# Altium schematic symbol library MCU_SiFive.SchLib: 3 symbols
Pins are listed as number, name and electrical type; pins without a type are passive.

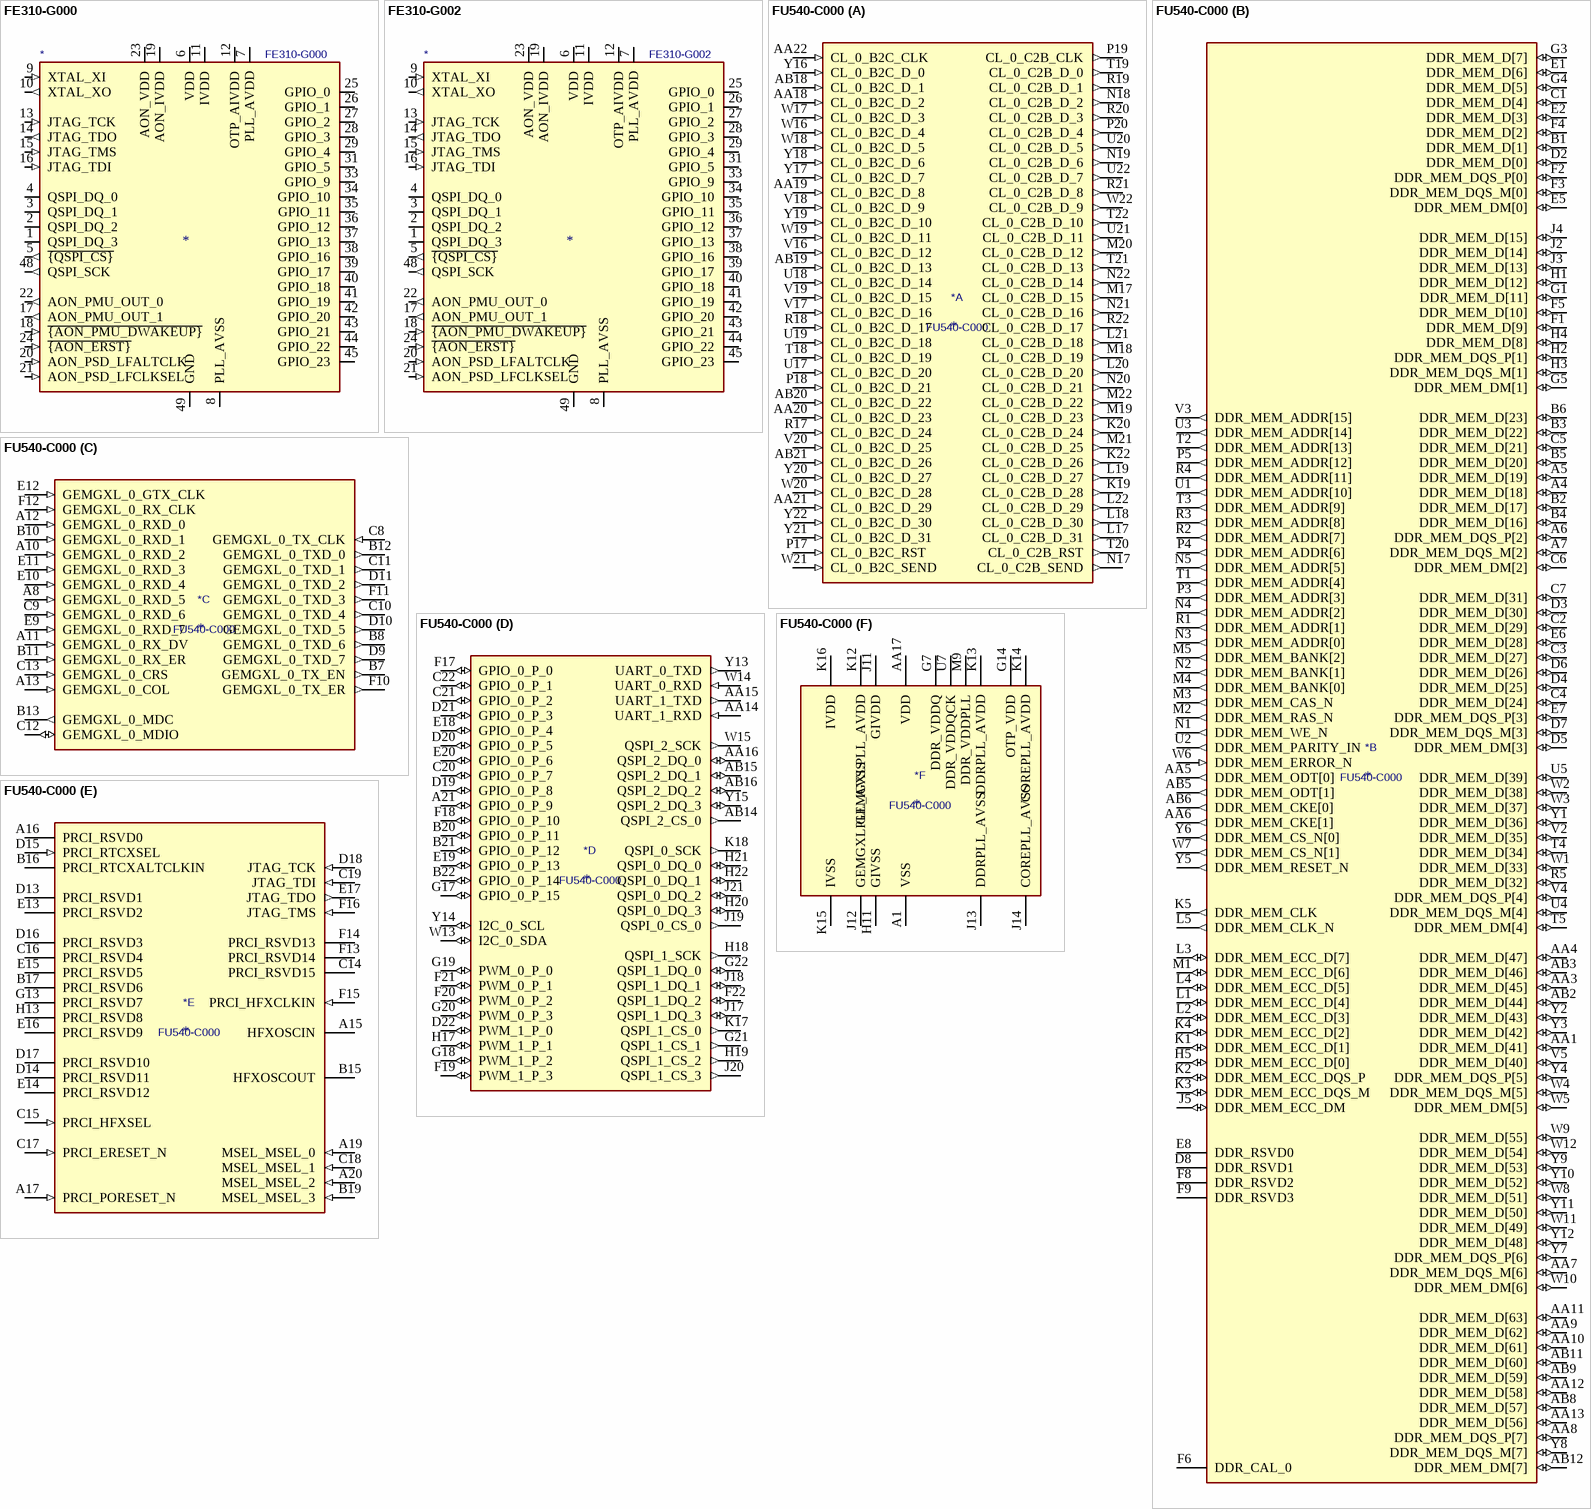
[diagram p0: symbols FE310-G000 to FU540-C000]

## FE310-G000
designator *  value FE310-G000
ki_keywords: microcontroller RISC-V SiFive; ki_description: RISC-V MCU, 8KB OTP Program Memory, 8KB ROM, 16KB Instruction Cache, 16KB SRAM, 320MHz, 1.8 and 3.6V, 24 GPIO, QFN-48; ki_fp_filters: QFN*1EP*6x6mm*P0.4mm*; Footprint: Package_DFN_QFN:QFN-48-1EP_6x6mm_P0.4mm_EP4.2x4.2mm_ThermalVias; Supplier: https://sifive.cdn.prismic.io/sifive%2Ffeb6f967-ff96-418f-9af4-a7f3b7fd1dfc_fe310-g000-ds.pdf
footprint QFN-48-1EP_6x6mm_P0.4mm_EP4.2x4.2mm_ThermalVias
pins: 1 QSPI_DQ_3 (io), 2 QSPI_DQ_2 (io), 3 QSPI_DQ_1 (io), 4 QSPI_DQ_0 (io), 5 ~{{QSPI_CS}} (out), 6 VDD (power), 7 PLL_AVDD (power), 8 PLL_AVSS (power), 9 XTAL_XI (in), 10 XTAL_XO (out), 11 IVDD (power), 12 OTP_AIVDD (power), 13 JTAG_TCK (in), 14 JTAG_TDO (out), 15 JTAG_TMS (in), 16 JTAG_TDI (in), 17 AON_PMU_OUT_1 (out), 18 ~{{AON_PMU_DWAKEUP}} (in), 19 AON_IVDD (power), 20 AON_PSD_LFALTCLK (in), 21 AON_PSD_LFCLKSEL (in), 22 AON_PMU_OUT_0 (out), 23 AON_VDD (power), 24 ~{{AON_ERST}} (in), 25 GPIO_0 (io), 26 GPIO_1 (io), 27 GPIO_2 (io), 28 GPIO_3 (io), 29 GPIO_4 (io), 30 VDD hidden, 31 GPIO_5 (io), 32 IVDD hidden, 33 GPIO_9 (io), 34 GPIO_10 (io), 35 GPIO_11 (io), 36 GPIO_12 (io), 37 GPIO_13 (io), 38 GPIO_16 (io), 39 GPIO_17 (io), 40 GPIO_18 (io), 41 GPIO_19 (io), 42 GPIO_20 (io), 43 GPIO_21 (io), 44 GPIO_22 (io), 45 GPIO_23 (io), 46 VDD hidden, 47 IVDD hidden, 48 QSPI_SCK (out), 49 GND (power)

## FE310-G002
designator *  value FE310-G002
ki_keywords: microcontroller RISC-V SiFive; ki_description: RISC-V MCU, 8KB OTP Program Memory, 8KB ROM, 16KB Instruction Cache, 16KB SRAM, 320MHz, 1.8 and 3.6V, 24 GPIO, QFN-48; ki_fp_filters: QFN*1EP*6x6mm*P0.4mm*; Footprint: Package_DFN_QFN:QFN-48-1EP_6x6mm_P0.4mm_EP4.2x4.2mm_ThermalVias; Supplier: https://sifive.cdn.prismic.io/sifive%2F3d777659-a0dd-49ed-a011-5bebba17aecf_fe310-g002-ds.pdf
footprint QFN-48-1EP_6x6mm_P0.4mm_EP4.2x4.2mm_ThermalVias
pins: 1 QSPI_DQ_3 (io), 2 QSPI_DQ_2 (io), 3 QSPI_DQ_1 (io), 4 QSPI_DQ_0 (io), 5 ~{{QSPI_CS}} (out), 6 VDD (power), 7 PLL_AVDD (power), 8 PLL_AVSS (power), 9 XTAL_XI (in), 10 XTAL_XO (out), 11 IVDD (power), 12 OTP_AIVDD (power), 13 JTAG_TCK (in), 14 JTAG_TDO (out), 15 JTAG_TMS (in), 16 JTAG_TDI (in), 17 AON_PMU_OUT_1 (out), 18 ~{{AON_PMU_DWAKEUP}} (in), 19 AON_IVDD (power), 20 AON_PSD_LFALTCLK (in), 21 AON_PSD_LFCLKSEL (in), 22 AON_PMU_OUT_0 (out), 23 AON_VDD (power), 24 ~{{AON_ERST}} (in), 25 GPIO_0 (io), 26 GPIO_1 (io), 27 GPIO_2 (io), 28 GPIO_3 (io), 29 GPIO_4 (io), 30 VDD hidden, 31 GPIO_5 (io), 32 IVDD hidden, 33 GPIO_9 (io), 34 GPIO_10 (io), 35 GPIO_11 (io), 36 GPIO_12 (io), 37 GPIO_13 (io), 38 GPIO_16 (io), 39 GPIO_17 (io), 40 GPIO_18 (io), 41 GPIO_19 (io), 42 GPIO_20 (io), 43 GPIO_21 (io), 44 GPIO_22 (io), 45 GPIO_23 (io), 46 VDD hidden, 47 IVDD hidden, 48 QSPI_SCK (out), 49 GND (power)

## FU540-C000
designator *  value FU540-C000
ki_keywords: SiFive; ki_description: 64-bit RISC‑V SoC, BGA-484; ki_fp_filters: BGA*23.0x23.0mm*P1.0mm*; Footprint: Package_BGA:BGA-484_23.0x23.0mm_Layout22x22_P1.0mm; Supplier: https://static.dev.sifive.com/FU540-C000-v1.0.pdf
footprint BGA-484_23.0x23.0mm_Layout22x22_P1.0mm
part A pins: AA18 CL_0_B2C_D_2 (in), AA19 CL_0_B2C_D_8 (in), AA20 CL_0_B2C_D_23 (in), AA21 CL_0_B2C_D_29 (in), AA22 CL_0_B2C_CLK (in), AB18 CL_0_B2C_D_1 (in), AB19 CL_0_B2C_D_13 (in), AB20 CL_0_B2C_D_22 (in), AB21 CL_0_B2C_D_26 (in), K19 CL_0_C2B_D_28 (out), K20 CL_0_C2B_D_24 (out), K22 CL_0_C2B_D_26 (out), L17 CL_0_C2B_D_31 (out), L18 CL_0_C2B_D_30 (out), L19 CL_0_C2B_D_27 (out), L20 CL_0_C2B_D_20 (out), L21 CL_0_C2B_D_18 (out), L22 CL_0_C2B_D_29 (out), M17 CL_0_C2B_D_15 (out), M18 CL_0_C2B_D_19 (out), M19 CL_0_C2B_D_23 (out), M20 CL_0_C2B_D_12 (out), M21 CL_0_C2B_D_25 (out), M22 CL_0_C2B_D_22 (out), N17 CL_0_C2B_SEND (out), N18 CL_0_C2B_D_2 (out), N19 CL_0_C2B_D_6 (out), N20 CL_0_C2B_D_21 (out), N21 CL_0_C2B_D_16 (out), N22 CL_0_C2B_D_14 (out), P17 CL_0_B2C_RST (in), P18 CL_0_B2C_D_21 (in), P19 CL_0_C2B_CLK (out), P20 CL_0_C2B_D_4 (out), R17 CL_0_B2C_D_24 (in), R18 CL_0_B2C_D_17 (in), R19 CL_0_C2B_D_1 (out), R20 CL_0_C2B_D_3 (out), R21 CL_0_C2B_D_8 (out), R22 CL_0_C2B_D_17 (out), T18 CL_0_B2C_D_19 (in), T19 CL_0_C2B_D_0 (out), T20 CL_0_C2B_RST (out), T21 CL_0_C2B_D_13 (out), T22 CL_0_C2B_D_10 (out), U17 CL_0_B2C_D_20 (in), U18 CL_0_B2C_D_14 (in), U19 CL_0_B2C_D_18 (in), U20 CL_0_C2B_D_5 (out), U21 CL_0_C2B_D_11 (out), U22 CL_0_C2B_D_7 (out), V16 CL_0_B2C_D_12 (in), V17 CL_0_B2C_D_16 (in), V18 CL_0_B2C_D_9 (in), V19 CL_0_B2C_D_15 (in), V20 CL_0_B2C_D_25 (in), W16 CL_0_B2C_D_4 (in), W17 CL_0_B2C_D_3 (in), W18 CL_0_B2C_D_5 (in), W19 CL_0_B2C_D_11 (in), W20 CL_0_B2C_D_28 (in), W21 CL_0_B2C_SEND (in), W22 CL_0_C2B_D_9 (out), Y16 CL_0_B2C_D_0 (in), Y17 CL_0_B2C_D_7 (in), Y18 CL_0_B2C_D_6 (in), Y19 CL_0_B2C_D_10 (in), Y20 CL_0_B2C_D_27 (in), Y21 CL_0_B2C_D_31 (in), Y22 CL_0_B2C_D_30 (in)
part B pins: A4 DDR_MEM_D[18] (io), A5 DDR_MEM_D[19] (io), A6 DDR_MEM_DQS_P[2] (io), A7 DDR_MEM_DQS_M[2] (io), AA1 DDR_MEM_D[41] (io), AA3 DDR_MEM_D[45] (io), AA4 DDR_MEM_D[47] (io), AA5 DDR_MEM_ODT[0] (out), AA6 DDR_MEM_CKE[1] (out), AA7 DDR_MEM_DQS_M[6] (io), AA8 DDR_MEM_DQS_P[7] (io), AA9 DDR_MEM_D[62] (io), AA10 DDR_MEM_D[61] (io), AA11 DDR_MEM_D[63] (io), AA12 DDR_MEM_D[58] (io), AA13 DDR_MEM_D[56] (io), AB2 DDR_MEM_D[44] (io), AB3 DDR_MEM_D[46] (io), AB5 DDR_MEM_ODT[1] (out), AB6 DDR_MEM_CKE[0] (out), AB8 DDR_MEM_D[57] (io), AB9 DDR_MEM_D[59] (io), AB11 DDR_MEM_D[60] (io), AB12 DDR_MEM_DM[7] (io), B1 DDR_MEM_D[1] (io), B2 DDR_MEM_D[17] (io), B3 DDR_MEM_D[22] (io), B4 DDR_MEM_D[16] (io), B5 DDR_MEM_D[20] (io), B6 DDR_MEM_D[23] (io), C1 DDR_MEM_D[4] (io), C2 DDR_MEM_D[29] (io), C3 DDR_MEM_D[27] (io), C4 DDR_MEM_D[24] (io), C5 DDR_MEM_D[21] (io), C6 DDR_MEM_DM[2] (io), C7 DDR_MEM_D[31] (io), D2 DDR_MEM_D[0] (io), D3 DDR_MEM_D[30] (io), D4 DDR_MEM_D[25] (io), D5 DDR_MEM_DM[3] (io), D6 DDR_MEM_D[26] (io), D7 DDR_MEM_DQS_M[3] (io), D8 DDR_RSVD1, E1 DDR_MEM_D[6] (io), E2 DDR_MEM_D[3] (io), E5 DDR_MEM_DM[0] (io), E6 DDR_MEM_D[28] (io), E7 DDR_MEM_DQS_P[3] (io), E8 DDR_RSVD0, F1 DDR_MEM_D[9] (io), F2 DDR_MEM_DQS_P[0] (io), F3 DDR_MEM_DQS_M[0] (io), F4 DDR_MEM_D[2] (io), F5 DDR_MEM_D[10] (io), F6 DDR_CAL_0, F8 DDR_RSVD2, F9 DDR_RSVD3, G1 DDR_MEM_D[11] (io), G3 DDR_MEM_D[7] (io), G4 DDR_MEM_D[5] (io), G5 DDR_MEM_DM[1] (io), H1 DDR_MEM_D[12] (io), H2 DDR_MEM_DQS_P[1] (io), H3 DDR_MEM_DQS_M[1] (io), H4 DDR_MEM_D[8] (io), H5 DDR_MEM_ECC_D[0] (io), J2 DDR_MEM_D[14] (io), J3 DDR_MEM_D[13] (io), J4 DDR_MEM_D[15] (io), J5 DDR_MEM_ECC_DM (io), K1 DDR_MEM_ECC_D[1] (io), K2 DDR_MEM_ECC_DQS_P (io), K3 DDR_MEM_ECC_DQS_M (io), K4 DDR_MEM_ECC_D[2] (io), K5 DDR_MEM_CLK (out), L1 DDR_MEM_ECC_D[4] (io), L2 DDR_MEM_ECC_D[3] (io), L3 DDR_MEM_ECC_D[7] (io), L4 DDR_MEM_ECC_D[5] (io), L5 DDR_MEM_CLK_N (out), M1 DDR_MEM_ECC_D[6] (io), M2 DDR_MEM_RAS_N (out), M3 DDR_MEM_CAS_N (out), M4 DDR_MEM_BANK[0] (out), M5 DDR_MEM_BANK[2] (out), N1 DDR_MEM_WE_N (out), N2 DDR_MEM_BANK[1] (out), N3 DDR_MEM_ADDR[0] (out), N4 DDR_MEM_ADDR[2] (out), N5 DDR_MEM_ADDR[5] (out), P3 DDR_MEM_ADDR[3] (out), P4 DDR_MEM_ADDR[6] (out), P5 DDR_MEM_ADDR[12] (out), R1 DDR_MEM_ADDR[1] (out), R2 DDR_MEM_ADDR[7] (out), R3 DDR_MEM_ADDR[8] (out), R4 DDR_MEM_ADDR[11] (out), R5 DDR_MEM_D[32] (io), T1 DDR_MEM_ADDR[4] (out), T2 DDR_MEM_ADDR[13] (out), T3 DDR_MEM_ADDR[9] (out), T4 DDR_MEM_D[34] (io), T5 DDR_MEM_DM[4] (io), U1 DDR_MEM_ADDR[10] (out), U2 DDR_MEM_PARITY_IN (out), U3 DDR_MEM_ADDR[14] (out), U4 DDR_MEM_DQS_M[4] (io), U5 DDR_MEM_D[39] (io), V2 DDR_MEM_D[35] (io), V3 DDR_MEM_ADDR[15] (out), V4 DDR_MEM_DQS_P[4] (io), V5 DDR_MEM_D[40] (io), W1 DDR_MEM_D[33] (io), W2 DDR_MEM_D[38] (io), W3 DDR_MEM_D[37] (io), W4 DDR_MEM_DQS_M[5] (io), W5 DDR_MEM_DM[5] (io), W6 DDR_MEM_ERROR_N (in), W7 DDR_MEM_CS_N[1] (out), W8 DDR_MEM_D[51] (io), W9 DDR_MEM_D[55] (io), W10 DDR_MEM_DM[6] (io), W11 DDR_MEM_D[49] (io), W12 DDR_MEM_D[54] (io), Y1 DDR_MEM_D[36] (io), Y2 DDR_MEM_D[43] (io), Y3 DDR_MEM_D[42] (io), Y4 DDR_MEM_DQS_P[5] (io), Y5 DDR_MEM_RESET_N (out), Y6 DDR_MEM_CS_N[0] (out), Y7 DDR_MEM_DQS_P[6] (io), Y8 DDR_MEM_DQS_M[7] (io), Y9 DDR_MEM_D[53] (io), Y10 DDR_MEM_D[52] (io), Y11 DDR_MEM_D[50] (io), Y12 DDR_MEM_D[48] (io)
part C pins: A8 GEMGXL_0_RXD_5 (in), A10 GEMGXL_0_RXD_2 (in), A11 GEMGXL_0_RX_DV (in), A12 GEMGXL_0_RXD_0 (in), A13 GEMGXL_0_COL (in), B7 GEMGXL_0_TX_EN (out), B8 GEMGXL_0_TXD_6 (out), B10 GEMGXL_0_RXD_1 (in), B11 GEMGXL_0_RX_ER (in), B12 GEMGXL_0_TXD_0 (out), B13 GEMGXL_0_MDC (out), C8 GEMGXL_0_TX_CLK (in), C9 GEMGXL_0_RXD_6 (in), C10 GEMGXL_0_TXD_4 (out), C11 GEMGXL_0_TXD_1 (out), C12 GEMGXL_0_MDIO (io), C13 GEMGXL_0_CRS (in), D9 GEMGXL_0_TXD_7 (out), D10 GEMGXL_0_TXD_5 (out), D11 GEMGXL_0_TXD_2 (out), E9 GEMGXL_0_RXD_7 (in), E10 GEMGXL_0_RXD_4 (in), E11 GEMGXL_0_RXD_3 (in), E12 GEMGXL_0_GTX_CLK (in), F10 GEMGXL_0_TX_ER (out), F11 GEMGXL_0_TXD_3 (out), F12 GEMGXL_0_RX_CLK (in)
part D pins: A21 GPIO_0_P_9 (io), AA14 UART_1_RXD (in), AA15 UART_1_TXD (out), AA16 QSPI_2_DQ_0 (io), AB14 QSPI_2_CS_0 (out), AB15 QSPI_2_DQ_1 (io), AB16 QSPI_2_DQ_2 (io), B20 GPIO_0_P_11 (io), B21 GPIO_0_P_12 (io), B22 GPIO_0_P_14 (io), C20 GPIO_0_P_7 (io), C21 GPIO_0_P_2 (io), C22 GPIO_0_P_1 (io), D19 GPIO_0_P_8 (io), D20 GPIO_0_P_5 (io), D21 GPIO_0_P_3 (io), D22 PWM_1_P_0 (io), E18 GPIO_0_P_4 (io), E19 GPIO_0_P_13 (io), E20 GPIO_0_P_6 (io), F17 GPIO_0_P_0 (io), F18 GPIO_0_P_10 (io), F19 PWM_1_P_3 (io), F20 PWM_0_P_2 (io), F21 PWM_0_P_1 (io), F22 QSPI_1_DQ_2 (io), G17 GPIO_0_P_15 (io), G18 PWM_1_P_2 (io), G19 PWM_0_P_0 (io), G20 PWM_0_P_3 (io), G21 QSPI_1_CS_1 (out), G22 QSPI_1_DQ_0 (io), H17 PWM_1_P_1 (io), H18 QSPI_1_SCK (out), H19 QSPI_1_CS_2 (out), H20 QSPI_0_DQ_3 (io), H21 QSPI_0_DQ_0 (io), H22 QSPI_0_DQ_1 (io), J17 QSPI_1_DQ_3 (io), J18 QSPI_1_DQ_1 (io), J19 QSPI_0_CS_0 (out), J20 QSPI_1_CS_3 (out), J21 QSPI_0_DQ_2 (io), K17 QSPI_1_CS_0 (out), K18 QSPI_0_SCK (out), W13 I2C_0_SDA (io), W14 UART_0_RXD (in), W15 QSPI_2_SCK (out), Y13 UART_0_TXD (out), Y14 I2C_0_SCL (io), Y15 QSPI_2_DQ_3 (io)
part E pins: A15 HFXOSCIN, A16 PRCI_RSVD0, A17 PRCI_PORESET_N (in), A19 MSEL_MSEL_0 (in), A20 MSEL_MSEL_2 (in), B15 HFXOSCOUT, B16 PRCI_RTCXALTCLKIN, B17 PRCI_RSVD6, B19 MSEL_MSEL_3 (in), C14 PRCI_RSVD15, C15 PRCI_HFXSEL (in), C16 PRCI_RSVD4, C17 PRCI_ERESET_N (in), C18 MSEL_MSEL_1 (in), C19 JTAG_TDI (in), D13 PRCI_RSVD1, D14 PRCI_RSVD11, D15 PRCI_RTCXSEL (in), D16 PRCI_RSVD3, D17 PRCI_RSVD10, D18 JTAG_TCK (in), E13 PRCI_RSVD2, E14 PRCI_RSVD12, E15 PRCI_RSVD5, E16 PRCI_RSVD9, E17 JTAG_TDO (out), F13 PRCI_RSVD14, F14 PRCI_RSVD13, F15 PRCI_HFXCLKIN (in), F16 JTAG_TMS (in), G13 PRCI_RSVD7, H13 PRCI_RSVD8
part F pins: A1 VSS (power), A2 VSS hidden, A3 VSS hidden, A9 VSS hidden, A14 VSS hidden, A18 VSS hidden, A22 VSS hidden, AA2 VSS hidden, AA17 VDD (power), AB1 VSS hidden, AB4 VSS hidden, AB7 VSS hidden, AB10 VSS hidden, AB13 VSS hidden, AB17 VSS hidden, AB22 VSS hidden, B9 VDD hidden, B14 VDD hidden, B18 VDD hidden, D1 VSS hidden, D12 VSS hidden, E3 VDD hidden, E4 VSS hidden, E21 VDD hidden, E22 VSS hidden, F7 VSS hidden, G2 VSS hidden, G6 VSS hidden, G7 DDR_VDDQ (power), G8 VSS hidden, G9 VDD hidden, G10 VSS hidden, G11 VDD hidden, G12 VSS hidden, G14 OTP_VDD (power), G15 VDD hidden, G16 VSS hidden, H6 DDR_VDDQ hidden, H7 VSS hidden, H8 VDD hidden, H9 VSS hidden, H10 VDD hidden, H11 GIVSS (power), H12 VDD hidden, H14 VDD hidden, H15 VSS hidden, H16 VDD hidden, J1 VSS hidden, J6 VSS hidden, J7 DDR_VDDQ hidden, J8 VSS hidden, J9 VDD hidden, J10 VSS hidden, J11 GIVDD (power), J12 GEMGXLPLL_AVSS (power), J13 DDRPLL_AVSS (power), J14 COREPLL_AVSS (power), J15 VDD hidden, J16 VSS hidden, J22 VSS hidden, K6 DDR_VDDQ hidden, K7 VSS hidden, K8 VDD hidden, K9 VSS hidden, K10 VDD hidden, K11 VSS hidden, K12 GEMGXLPLL_AVDD (power), K13 DDRPLL_AVDD (power), K14 COREPLL_AVDD (power), K15 IVSS (power), K16 IVDD (power), K21 VDD hidden, L6 VSS hidden, L7 DDR_VDDQ hidden, L8 VSS hidden, L9 DDR_VDDPLL hidden, L10 VSS hidden, L11 VDD hidden, L12 VSS hidden, L13 VDD hidden, L14 VSS hidden, L15 IVSS hidden, L16 IVDD hidden, M6 DDR_VDDQ hidden, M7 VSS hidden, M8 VDD hidden, M9 DDR_VDDPLL (power), M10 VDD hidden, M11 VSS hidden, M12 VDD hidden, M13 VSS hidden, M14 VDD hidden, M15 IVSS hidden, M16 IVDD hidden, N6 VSS hidden, N7 DDR_VDDQ hidden, N8 VSS hidden, N9 VDD hidden, N10 VSS hidden, N11 VDD hidden, N12 VSS hidden, N13 VDD hidden, N14 VSS hidden, N15 IVSS hidden, N16 IVDD hidden, P1 VSS hidden, P2 VDD hidden, P6 DDR_VDDQ hidden, P7 VSS hidden, P8 VDD hidden, P9 VSS hidden, P10 VDD hidden, P11 VSS hidden, P12 VDD hidden, P13 VSS hidden, P14 VDD hidden, P15 VSS hidden, P16 VDD hidden, P21 VDD hidden, P22 VSS hidden, R6 VSS hidden, R7 DDR_VDDQ hidden, R8 VSS hidden, R9 VDD hidden, R10 VSS hidden, R11 VDD hidden, R12 VSS hidden, R13 VDD hidden, R14 VSS hidden, R15 VDD hidden, R16 VSS hidden, T6 DDR_VDDQ hidden, T7 VSS hidden, T8 VDD hidden, T9 VSS hidden, T10 VDD hidden, T11 VSS hidden, T12 VDD hidden, T13 VSS hidden, T14 VDD hidden, T15 VSS hidden, T16 VDD hidden, T17 VSS hidden, U6 VSS hidden, U7 DDR_VDDQCK (power), U8 VSS hidden, U9 VDD hidden, U10 VSS hidden, U11 VDD hidden, U12 VSS hidden, U13 VDD hidden, U14 VSS hidden, U15 VDD hidden, U16 VSS hidden, V1 VSS hidden, V6 VDD hidden, V7 VSS hidden, V8 VDD hidden, V9 VSS hidden, V10 VDD hidden, V11 VSS hidden, V12 VDD hidden, V13 VSS hidden, V14 VDD hidden, V15 VSS hidden, V21 VDD hidden, V22 VSS hidden